# Altium schematic symbol library 132134.SchLib: 1 symbol
Pins are listed as number, name and electrical type; pins without a type are passive.

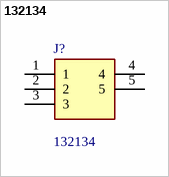
[diagram p0: symbol 132134]

## 132134
designator J?
RF Connectors / Coaxial Connectors SMA STRAIGHT PCB RECEPTACLE; Manufacturer_Name: Amphenol; Geometry.Height: 9.53mm; Mouser Part Number: 523-132134; Mouser Price/Stock: https://www.mouser.co.uk/ProductDetail/Amphenol-RF/132134?qs=b8dDPpdgesvQEpS4IQp3aA%3D%3D; Manufacturer_Part_Number: 132134; Datasheet Link: https://datasheet.datasheetarchive.com/originals/distributors/Datasheets-DGA15/760440.pdf
footprint 132134
pins: 1, 2, 3, 4, 5